# EAGLE library part PCA9603 (library Erle)
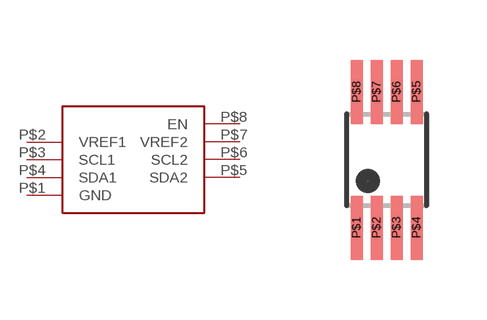
[diagram p2: symbol with the pads of DCT; footprint DCT]

Designator prefix -

## PCA9603  [DCT]
P$1  GND
P$2  VREF1
P$3  SCL1
P$4  SDA1
P$5  SDA2
P$6  SCL2
P$7  VREF2
P$8  EN

## Footprint DCT (pad centres in mm)
smd 0.3 x 1.6: P$1 0.52,-1.7; P$2 1.02,-1.7; P$3 1.52,-1.7; P$4 2.02,-1.7; P$5 2.02,1.7; P$6 1.52,1.7; P$7 1.02,1.7; P$8 0.52,1.7